# EAGLE library part RFµ-328 (library Ciseco Footprints)
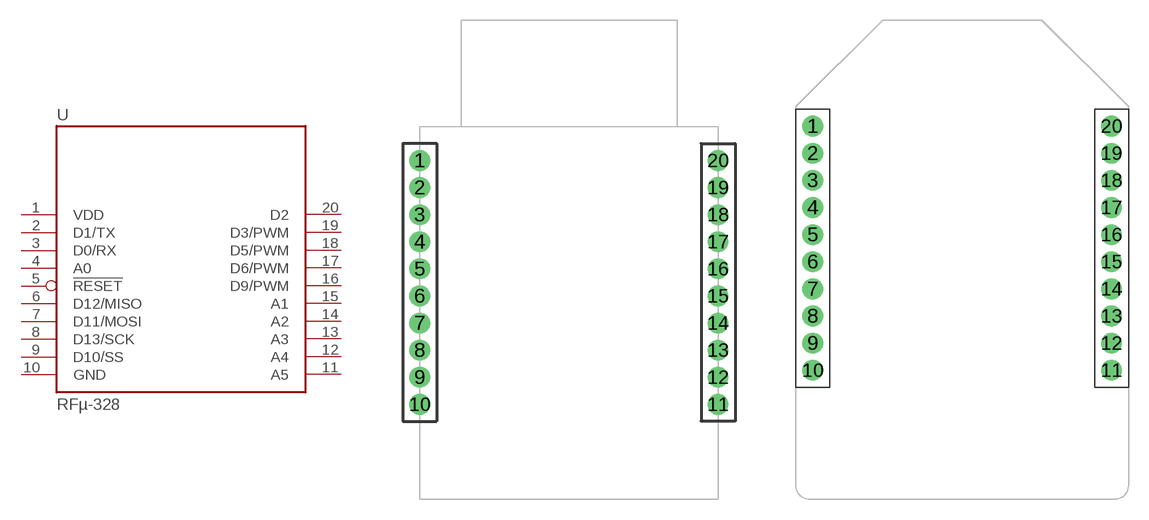
[diagram p2: symbol with the pads of RFµ-328-SOCKET; footprints RFµ-328-SOCKET, RFµ-SOCKET-V2.0]

Designator prefix U

## RFµ-328-SOCKET  [RFµ-328-SOCKET]
1  VDD  pwr
2  D1/TX  out
3  D0/RX  in
4  A0
5  !RESET  in
6  D12/MISO
7  D11/MOSI
8  D13/SCK
9  D10/SS
10  GND  pwr
11  A5
12  A4  out
13  A3
14  A2
15  A1
16  D9/PWM  in
17  D6/PWM
18  D5/PWM
19  D3/PWM
20  D2

## RFµ-328-SOCKET-V2.0  [RFµ-SOCKET-V2.0]
Pads as for RFµ-328-SOCKET

## Footprint RFµ-328-SOCKET (pad centres in mm)
drill 0.8 pad 1.524: 1 -11,20; 2 -11,18; 3 -11,16; 4 -11,14; 5 -11,12; 6 -11,10; 7 -11,8; 8 -11,6; 9 -11,4; 10 -11,2; 11 11,2; 12 11,4; 13 11,6; 14 11,8; 15 11,10; 16 11,12; 17 11,14; 18 11,16; 19 11,18; 20 11,20

## Footprint RFµ-SOCKET-V2.0 (pad centres in mm)
drill 0.8 pad 1.524: 1 -11,20; 2 -11,18; 3 -11,16; 4 -11,14; 5 -11,12; 6 -11,10; 7 -11,8; 8 -11,6; 9 -11,4; 10 -11,2; 11 11,2; 12 11,4; 13 11,6; 14 11,8; 15 11,10; 16 11,12; 17 11,14; 18 11,16; 19 11,18; 20 11,20